# EAGLE library part TO-263-5 (library PonLib)
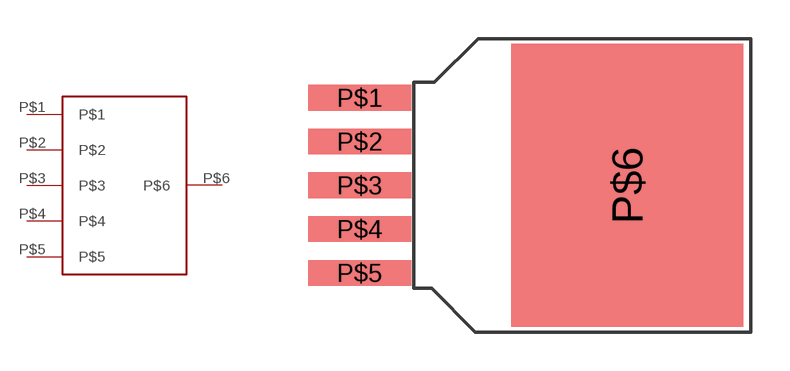
[diagram p23: symbol with the pads of TO-263-5; footprint TO-263-5]

Designator prefix -

## TO-263-5  [TO-263-5]
P$1  P$1
P$2  P$2
P$3  P$3
P$4  P$4
P$5  P$5
P$6  P$6

## Footprint TO-263-5 (pad centres in mm)
smd 4 x 1: P$1 -2,3.4; P$2 -2,1.7; P$3 -2,0; P$4 -2,-1.7; P$5 -2,-3.4
smd 9 x 11: P$6 8.4,0